# EAGLE library part LT1634_SOIC8 (library FE_Kenny)
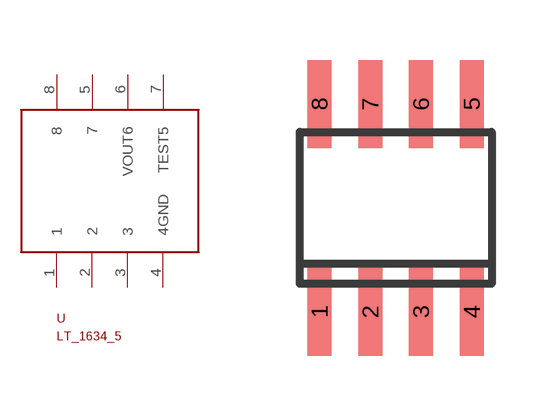
[diagram p2: symbol with the pads of SOIC8; footprint SOIC8]

Designator prefix -

## LT1634_SOIC8  [SOIC8]
1  1
2  2
3  3
4  4GND
5  7
6  VOUT6
7  TEST5
8  8

## Footprint SOIC8 (pad centres in mm)
Small Outline IC
smd 0.6 x 2.2: 1 -1.905,-2.6; 2 -0.635,-2.6; 3 0.635,-2.6; 4 1.905,-2.6; 5 1.905,2.6; 6 0.635,2.6; 7 -0.635,2.6; 8 -1.905,2.6